# Altium footprint library SOP.PcbLib: 214 footprints (part 1 of 14)
Each footprint in its own frame and in the unit in brackets; x right, y up, seen from the top. Pads: shape width x height; smd on the part's side, far side on the other; paste and mask are expansions set on the pad; w line width, h text height; cw(c..) or ccw(c..) is an arc to the next point about the centre after c.
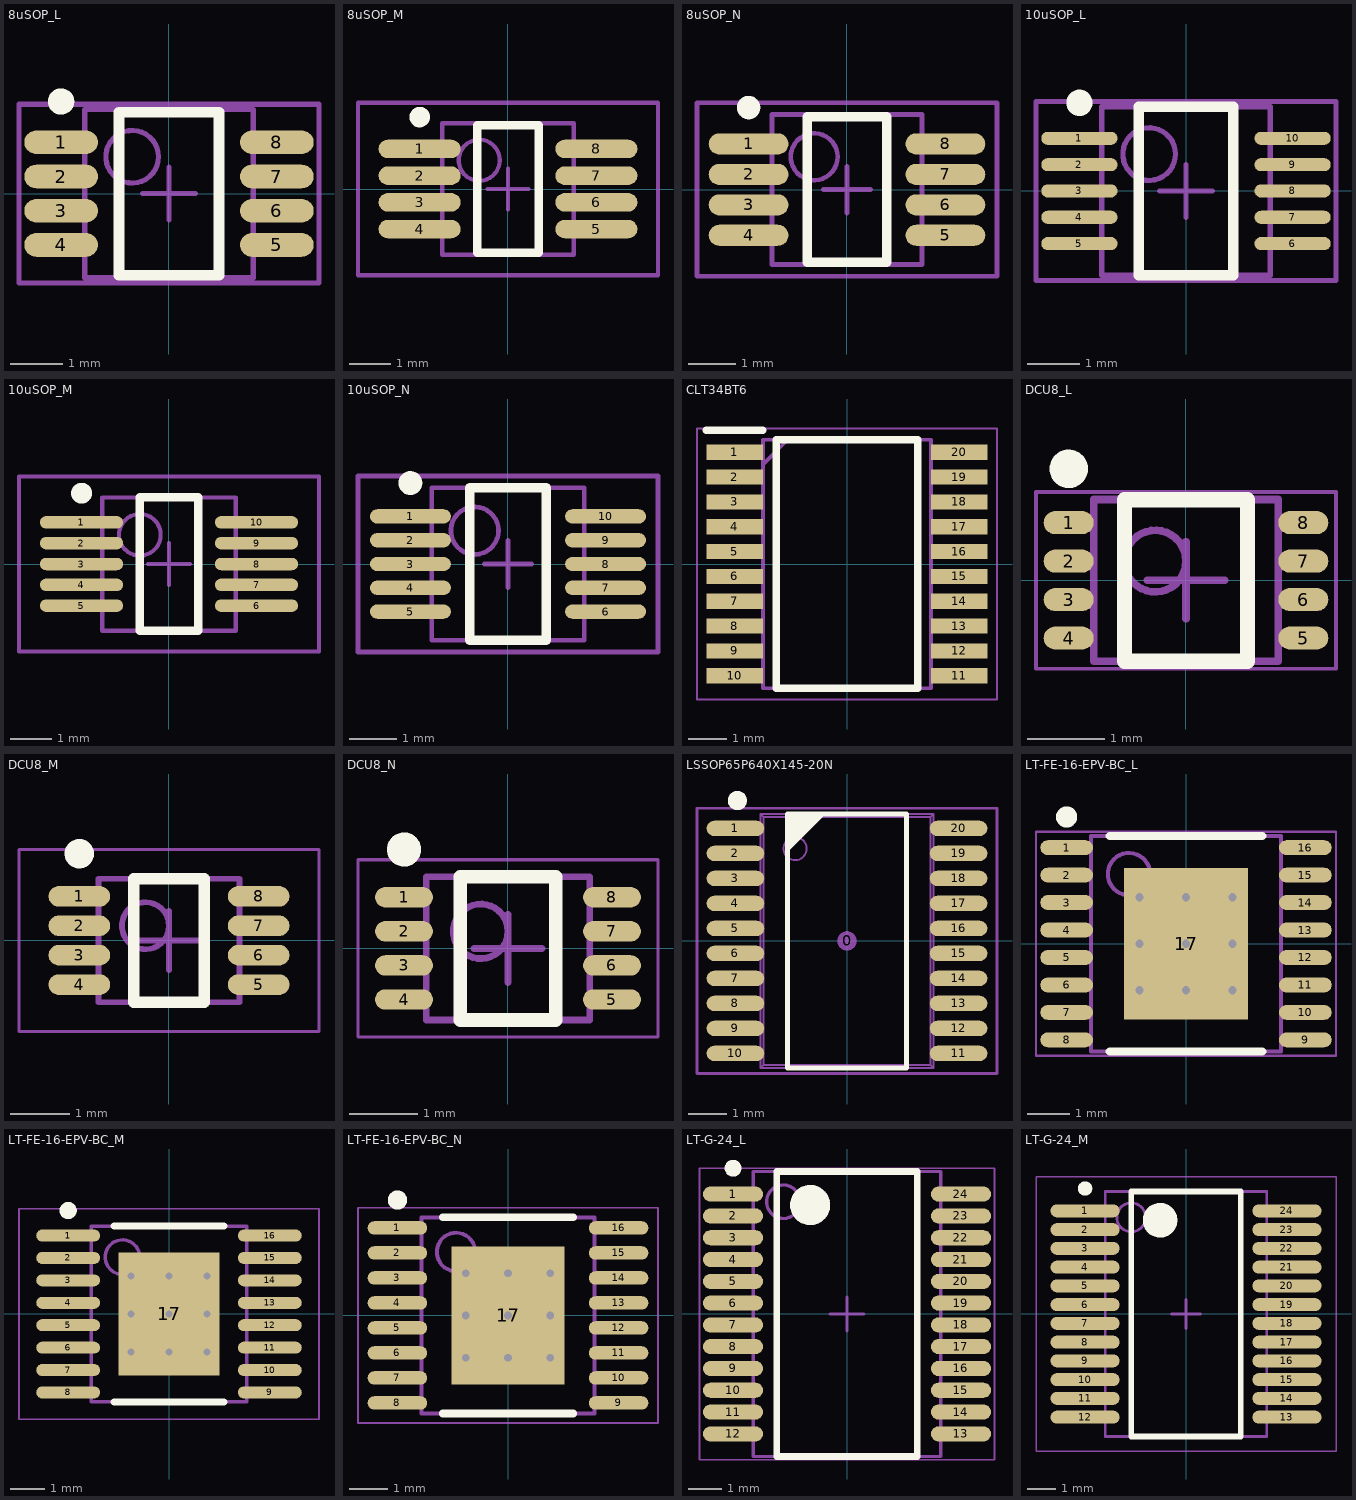
[diagram p0: the footprints below, top view; thin cyan lines are the x and y axes]

## 8uSOP_L [mm] "TSOP, 8-Leads, Body 3x3mm, Pitch 0.65mm, IPC High Density"
height 1.1
pads (8):
  oval 1.4x0.45 smd: 1(-2.05,0.975) 2(-2.05,0.325) 3(-2.05,-0.325) 4(-2.05,-0.975) 5(2.05,-0.975) 6(2.05,-0.325) 7(2.05,0.325) 8(2.05,0.975)
Top Overlay:
  circle w0.25: c-2.05,1.75 r0.125
  lines w0.2: -0.95,-1.55 -0.95,1.55 0.95,1.55 0.95,-1.55 -0.95,-1.55
Mechanical 13:
  circle w0.1: c-0.7,0.7 r0.5
  lines w0.1: -1.6,-1.6 -1.6,1.6 1.6,1.6 1.6,-1.6 -1.6,-1.6
Mechanical 15:
  lines w0.1: -0.5,0 0.5,0 ; 0,-0.5 0,0.5 ; -2.85,-1.7 -2.85,1.7 2.85,1.7 2.85,-1.7 -2.85,-1.7
3D body: height 1.1, standoff 0, extent -1.6,-1.6 1.6,1.6

## 8uSOP_M [mm] "TSOP, 8-Leads, Body 3x3mm, Pitch 0.65mm, IPC Low Density"
height 1.1
pads (8):
  oval 2x0.45 smd: 1(-2.15,0.975) 2(-2.15,0.325) 3(-2.15,-0.325) 4(-2.15,-0.975) 5(2.15,-0.975) 6(2.15,-0.325) 7(2.15,0.325) 8(2.15,0.975)
Top Overlay:
  circle w0.25: c-2.15,1.75 r0.125
  lines w0.2: -0.75,-1.55 -0.75,1.55 0.75,1.55 0.75,-1.55 -0.75,-1.55
Mechanical 13:
  circle w0.1: c-0.7,0.7 r0.5
  lines w0.1: -1.6,-1.6 -1.6,1.6 1.6,1.6 1.6,-1.6 -1.6,-1.6
Mechanical 15:
  lines w0.1: -0.5,0 0.5,0 ; 0,-0.5 0,0.5 ; -3.65,-2.1 -3.65,2.1 3.65,2.1 3.65,-2.1 -3.65,-2.1
3D body: height 1.1, standoff 0, extent -1.6,-1.6 1.6,1.6

## 8uSOP_N [mm] "TSOP, 8-Leads, Body 3x3mm, Pitch 0.65mm, IPC Medium Density"
height 1.1
pads (8):
  oval 1.7x0.45 smd: 1(-2.1,0.975) 2(-2.1,0.325) 3(-2.1,-0.325) 4(-2.1,-0.975) 5(2.1,-0.975) 6(2.1,-0.325) 7(2.1,0.325) 8(2.1,0.975)
Top Overlay:
  circle w0.25: c-2.1,1.75 r0.125
  lines w0.2: -0.85,-1.55 0.85,-1.55 0.85,1.55 -0.85,1.55 -0.85,-1.55
Mechanical 13:
  circle w0.1: c-0.7,0.7 r0.5
  lines w0.1: -1.6,-1.6 1.6,-1.6 1.6,1.6 -1.6,1.6 -1.6,-1.6
Mechanical 15:
  lines w0.1: -0.5,0 0.5,0 ; 0,-0.5 0,0.5 ; -3.2,-1.85 3.2,-1.85 3.2,1.85 -3.2,1.85 -3.2,-1.85
3D body: height 1.1, standoff 0, extent -1.6,-1.6 1.6,1.6

## 10uSOP_L [mm] "TSSOP, 10-Leads, Body 3x3mm, Pitch 0.5mm, IPC High Density"
height 1.1
pads (10):
  oval 1.45x0.25 smd: 1(-2.025,1) 2(-2.025,0.5) 3(-2.025,0) 4(-2.025,-0.5) 5(-2.025,-1) 6(2.025,-1) 7(2.025,-0.5) 8(2.025,0) 9(2.025,0.5) 10(2.025,1)
Top Overlay:
  circle w0.25: c-2.025,1.675 r0.125
  lines w0.2: -0.9,-1.6 0.9,-1.6 0.9,1.6 -0.9,1.6 -0.9,-1.6
Mechanical 13:
  circle w0.1: c-0.7,0.7 r0.5
  lines w0.1: -1.6,-1.6 1.6,-1.6 1.6,1.6 -1.6,1.6 -1.6,-1.6
Mechanical 15:
  lines w0.1: -0.5,0 0.5,0 ; 0,-0.5 0,0.5 ; -2.85,-1.7 2.85,-1.7 2.85,1.7 -2.85,1.7 -2.85,-1.7
3D body: height 1.1, standoff 0, extent -1.6,-1.6 1.6,1.6

## 10uSOP_M [mm] "TSSOP, 10-Leads, Body 3x3mm, Pitch 0.5mm, IPC Low Density"
height 1.1
pads (10):
  oval 2x0.3 smd: 1(-2.1,1) 2(-2.1,0.5) 3(-2.1,0) 4(-2.1,-0.5) 5(-2.1,-1) 6(2.1,-1) 7(2.1,-0.5) 8(2.1,0) 9(2.1,0.5) 10(2.1,1)
Top Overlay:
  circle w0.25: c-2.1,1.7 r0.125
  lines w0.2: -0.7,-1.6 0.7,-1.6 0.7,1.6 -0.7,1.6 -0.7,-1.6
Mechanical 13:
  circle w0.1: c-0.7,0.7 r0.5
  lines w0.1: -1.6,-1.6 1.6,-1.6 1.6,1.6 -1.6,1.6 -1.6,-1.6
Mechanical 15:
  lines w0.1: -0.5,0 0.5,0 ; 0,-0.5 0,0.5 ; -3.6,-2.1 3.6,-2.1 3.6,2.1 -3.6,2.1 -3.6,-2.1
3D body: height 1.1, standoff 0, extent -1.6,-1.6 1.6,1.6

## 10uSOP_N [mm] "TSSOP, 10-Leads, Body 3x3mm, Pitch 0.5mm, IPC Medium Density"
height 1.1
pads (10):
  oval 1.7x0.3 smd: 1(-2.05,1) 2(-2.05,0.5) 3(-2.05,0) 4(-2.05,-0.5) 5(-2.05,-1) 6(2.05,-1) 7(2.05,-0.5) 8(2.05,0) 9(2.05,0.5) 10(2.05,1)
Top Overlay:
  circle w0.25: c-2.05,1.7 r0.125
  lines w0.2: -0.8,-1.6 -0.8,1.6 0.8,1.6 0.8,-1.6 -0.8,-1.6
Mechanical 13:
  circle w0.1: c-0.7,0.7 r0.5
  lines w0.1: -1.6,-1.6 -1.6,1.6 1.6,1.6 1.6,-1.6 -1.6,-1.6
Mechanical 15:
  lines w0.1: -0.5,0 0.5,0 ; 0,-0.5 0,0.5 ; -3.15,-1.85 -3.15,1.85 3.15,1.85 3.15,-1.85 -3.15,-1.85
3D body: height 1.1, standoff 0, extent -1.6,-1.6 1.6,1.6

## CLT34BT6 [mm]
pads (20):
  rect 1.475x0.4 smd: 1(-2.938,2.925) 2(-2.938,2.275) 3(-2.938,1.625) 4(-2.938,0.975) 5(-2.938,0.325) 6(-2.938,-0.325) 7(-2.938,-0.975) 8(-2.938,-1.625) 9(-2.938,-2.275) 10(-2.938,-2.925) 11(2.938,-2.925) 12(2.938,-2.275) 13(2.938,-1.625) 14(2.938,-0.975) 15(2.938,-0.325) 16(2.938,0.325) 17(2.938,0.975) 18(2.938,1.625) 19(2.938,2.275) 20(2.938,2.925)
Top Overlay:
  lines w0.2: -3.675,3.5 -2.2,3.5 ; -1.85,-3.25 1.85,-3.25 1.85,3.25 -1.85,3.25 -1.85,-3.25
Mechanical 13:
  lines w0.1: -2.2,2.6 -1.55,3.25 ; -2.2,-3.25 2.2,-3.25 2.2,3.25 -2.2,3.25 -2.2,-3.25
Mechanical 15:
  lines w0.05: -3.925,-3.55 3.925,-3.55 3.925,3.55 -3.925,3.55 -3.925,-3.55
3D body "STM32G030F6P6TR.stp": height 1.2, standoff 0, extent -3.2,-3.25 3.2,3.25

## DCU8_L [mm] "TSSOP, 8-Leads, Body 2x2.3mm, Pitch 0.5mm, IPC High Density"
height 0.9
pads (8):
  oval 0.65x0.3 smd: 1(-1.525,0.75) 2(-1.525,0.25) 3(-1.525,-0.25) 4(-1.525,-0.75) 5(1.525,-0.75) 6(1.525,-0.25) 7(1.525,0.25) 8(1.525,0.75)
Top Overlay:
  circle w0.25: c-1.525,1.45 r0.125
  lines w0.2: -0.8,-1.05 0.8,-1.05 0.8,1.05 -0.8,1.05 -0.8,-1.05
Mechanical 13:
  circle w0.1: c-0.4,0.25 r0.4
  lines w0.1: -1.2,-1.05 1.2,-1.05 1.2,1.05 -1.2,1.05 -1.2,-1.05
Mechanical 15:
  lines w0.05: -1.95,-1.15 1.95,-1.15 1.95,1.15 -1.95,1.15 -1.95,-1.15
  lines w0.1: -0.5,0 0.5,0 ; 0,-0.5 0,0.5
3D body: height 0.9, standoff 0, extent -1.2,-1.05 1.2,1.05

## DCU8_M [mm] "TSSOP, 8-Leads, Body 2x2.3mm, Pitch 0.5mm, IPC Low Density"
height 0.9
pads (8):
  oval 1.05x0.35 smd: 1(-1.525,0.75) 2(-1.525,0.25) 3(-1.525,-0.25) 4(-1.525,-0.75) 5(1.525,-0.75) 6(1.525,-0.25) 7(1.525,0.25) 8(1.525,0.75)
Top Overlay:
  circle w0.25: c-1.525,1.475 r0.125
  lines w0.2: -0.6,-1.05 -0.6,1.05 0.6,1.05 0.6,-1.05 -0.6,-1.05
Mechanical 13:
  circle w0.1: c-0.4,0.25 r0.4
  lines w0.1: -1.2,-1.05 -1.2,1.05 1.2,1.05 1.2,-1.05 -1.2,-1.05
Mechanical 15:
  lines w0.05: -2.55,-1.55 -2.55,1.55 2.55,1.55 2.55,-1.55 -2.55,-1.55
  lines w0.1: -0.5,0 0.5,0 ; 0,-0.5 0,0.5
3D body: height 0.9, standoff 0, extent -1.2,-1.05 1.2,1.05

## DCU8_N [mm] "TSSOP, 8-Leads, Body 2x2.3mm, Pitch 0.5mm, IPC Medium Density"
height 0.9
pads (8):
  oval 0.85x0.3 smd: 1(-1.525,0.75) 2(-1.525,0.25) 3(-1.525,-0.25) 4(-1.525,-0.75) 5(1.525,-0.75) 6(1.525,-0.25) 7(1.525,0.25) 8(1.525,0.75)
Top Overlay:
  circle w0.25: c-1.525,1.45 r0.125
  lines w0.2: -0.7,-1.05 0.7,-1.05 0.7,1.05 -0.7,1.05 -0.7,-1.05
Mechanical 13:
  circle w0.1: c-0.4,0.25 r0.4
  lines w0.1: -1.2,-1.05 1.2,-1.05 1.2,1.05 -1.2,1.05 -1.2,-1.05
Mechanical 15:
  lines w0.05: -2.2,-1.3 2.2,-1.3 2.2,1.3 -2.2,1.3 -2.2,-1.3
  lines w0.1: -0.5,0 0.5,0 ; 0,-0.5 0,0.5
3D body "User Library-SOP50P310X90-8N[8US8_VSSOP_DCU_MO-187CA].step": height 0.9, standoff 0, extent -1.6,-1.05 1.6,1.05

## LSSOP65P640X145-20N [mm] "LSSOP, 20-Leads, Body 6.6x4.5mm (max), Pitch 0.65mm, IPC Medium Density"
height 1.45
pads (21):
  round 0.508 on Mech15 mask+0.127: 0(0,0)
  oval 1.5x0.4 smd paste-1 mask+0.127: 1(-2.9,2.925) 2(-2.9,2.275) 3(-2.9,1.625) 4(-2.9,0.975) 5(-2.9,0.325) 6(-2.9,-0.325) 7(-2.9,-0.975) 8(-2.9,-1.625) 9(-2.9,-2.275) 10(-2.9,-2.925) 11(2.9,-2.925) 12(2.9,-2.275) 13(2.9,-1.625) 14(2.9,-0.975) 15(2.9,-0.325) 16(2.9,0.325) 17(2.9,0.975) 18(2.9,1.625) 19(2.9,2.275) 20(2.9,2.925)
Top Overlay:
  circle w0.25: c-2.85,3.65 r0.125
  region: -1.55,3.3 -0.55,3.3 -1.55,2.3
  lines w0.127: -1.55,-3.3 -1.55,3.3 1.55,3.3 1.55,-3.3 -1.55,-3.3
Top Paste:
  region: 3.5,-0.825 2.3,-0.825 2.3,-1.125 3.5,-1.125
  region: 3.5,-0.175 2.3,-0.175 2.3,-0.475 3.5,-0.475
  region: 3.5,0.475 2.3,0.475 2.3,0.175 3.5,0.175
  region: 3.5,1.125 2.3,1.125 2.3,0.825 3.5,0.825
  region: 3.5,1.775 2.3,1.775 2.3,1.475 3.5,1.475
  region: 3.5,2.425 2.3,2.425 2.3,2.125 3.5,2.125
  region: 3.5,3.075 2.3,3.075 2.3,2.775 3.5,2.775
  rectangle: -3.5,2.775 -2.3,3.075
  rectangle: -3.5,2.125 -2.3,2.425
  rectangle: -3.5,1.475 -2.3,1.775
  rectangle: -3.5,0.825 -2.3,1.125
  rectangle: -3.5,0.175 -2.3,0.475
  rectangle: -3.5,-0.475 -2.3,-0.175
  rectangle: -3.5,-1.125 -2.3,-0.825
  rectangle: -3.5,-3.075 -2.3,-2.775
  rectangle: -3.5,-2.425 -2.3,-2.125
  rectangle: -3.5,-1.775 -2.3,-1.475
  region: 3.5,-1.475 2.3,-1.475 2.3,-1.775 3.5,-1.775
  region: 3.5,-2.125 2.3,-2.125 2.3,-2.425 3.5,-2.425
  region: 3.5,-2.775 2.3,-2.775 2.3,-3.075 3.5,-3.075
Mechanical 13:
  drawing of 153 lines, arcs and shapes, not listed
Mechanical 15:
  lines w0.076: -3.9,-3.45 -3.9,3.45 3.9,3.45 3.9,-3.45 -3.9,-3.45
3D body "LSSOP65P640X145-20N.STEP": height 1.45, standoff 0, extent -3.3,-3.3 3.3,3.3

## LT-FE-16-EPV-BC_L [mm] "SOP, 16-Leads, Body 5.1x4.5mm, Pitch 0.65mm, Thermal Pad 3.58x2.94mm, IPC High Density"
height 1.1
pads (17):
  oval 1.25x0.35 smd: 1(-2.825,2.275) 2(-2.825,1.625) 3(-2.825,0.975) 4(-2.825,0.325) 5(-2.825,-0.325) 6(-2.825,-0.975) 7(-2.825,-1.625) 8(-2.825,-2.275) 9(2.825,-2.275) 10(2.825,-1.625) 11(2.825,-0.975) 12(2.825,-0.325) 13(2.825,0.325) 14(2.825,0.975) 15(2.825,1.625) 16(2.825,2.275)
  rect 2.94x3.58 smd: 17(0,0)
via 1.1,-1.1 diameter 0.5 hole 0.2
via 0,-1.1 diameter 0.5 hole 0.2
via -1.1,-1.1 diameter 0.5 hole 0.2
via 1.1,0 diameter 0.5 hole 0.2
via 0,0 diameter 0.5 hole 0.2
via -1.1,0 diameter 0.5 hole 0.2
via 1.1,1.1 diameter 0.5 hole 0.2
via 0,1.1 diameter 0.5 hole 0.2
via -1.1,1.1 diameter 0.5 hole 0.2
Top Overlay:
  circle w0.25: c-2.825,3 r0.125
  lines w0.2: -1.8,-2.55 1.8,-2.55 ; -1.8,2.55 1.8,2.55
Mechanical 13:
  circle w0.1: c-1.35,1.65 r0.5
  lines w0.1: -2.25,-2.55 2.25,-2.55 2.25,2.55 -2.25,2.55 -2.25,-2.55
Mechanical 15:
  lines w0.05: -3.55,-2.65 3.55,-2.65 3.55,2.65 -3.55,2.65 -3.55,-2.65
  lines w0.1: -0.5,0 0.5,0 ; 0,-0.5 0,0.5
3D body: height 1.1, standoff 0.05, extent -2.25,-2.55 2.25,2.55

## LT-FE-16-EPV-BC_M [mm] "SOP, 16-Leads, Body 5.1x4.5mm, Pitch 0.65mm, Thermal Pad 3.58x2.94mm, IPC Low Density"
height 1.1
pads (17):
  oval 1.85x0.35 smd: 1(-2.925,2.275) 2(-2.925,1.625) 3(-2.925,0.975) 4(-2.925,0.325) 5(-2.925,-0.325) 6(-2.925,-0.975) 7(-2.925,-1.625) 8(-2.925,-2.275) 9(2.925,-2.275) 10(2.925,-1.625) 11(2.925,-0.975) 12(2.925,-0.325) 13(2.925,0.325) 14(2.925,0.975) 15(2.925,1.625) 16(2.925,2.275)
  rect 2.94x3.58 smd: 17(0,0)
via 1.1,-1.1 diameter 0.5 hole 0.2
via 0,-1.1 diameter 0.5 hole 0.2
via -1.1,-1.1 diameter 0.5 hole 0.2
via 1.1,0 diameter 0.5 hole 0.2
via 0,0 diameter 0.5 hole 0.2
via -1.1,0 diameter 0.5 hole 0.2
via 1.1,1.1 diameter 0.5 hole 0.2
via 0,1.1 diameter 0.5 hole 0.2
via -1.1,1.1 diameter 0.5 hole 0.2
Top Overlay:
  circle w0.25: c-2.925,3 r0.125
  lines w0.2: -1.6,-2.55 1.6,-2.55 ; -1.6,2.55 1.6,2.55
Mechanical 13:
  circle w0.1: c-1.35,1.65 r0.5
  lines w0.1: -2.25,-2.55 2.25,-2.55 2.25,2.55 -2.25,2.55 -2.25,-2.55
Mechanical 15:
  lines w0.05: -4.35,-3.05 4.35,-3.05 4.35,3.05 -4.35,3.05 -4.35,-3.05
  lines w0.1: -0.5,0 0.5,0 ; 0,-0.5 0,0.5
3D body: height 1.1, standoff 0.05, extent -2.25,-2.55 2.25,2.55

## LT-FE-16-EPV-BC_N [mm] "SOP, 16-Leads, Body 5.1x4.5mm, Pitch 0.65mm, Thermal Pad 3.58x2.94mm, IPC Medium Density"
height 1.1
pads (17):
  oval 1.55x0.35 smd: 1(-2.875,2.275) 2(-2.875,1.625) 3(-2.875,0.975) 4(-2.875,0.325) 5(-2.875,-0.325) 6(-2.875,-0.975) 7(-2.875,-1.625) 8(-2.875,-2.275) 9(2.875,-2.275) 10(2.875,-1.625) 11(2.875,-0.975) 12(2.875,-0.325) 13(2.875,0.325) 14(2.875,0.975) 15(2.875,1.625) 16(2.875,2.275)
  rect 2.94x3.58 smd: 17(0,0)
via -1.1,1.1 diameter 0.5 hole 0.2
via 0,1.1 diameter 0.5 hole 0.2
via 1.1,1.1 diameter 0.5 hole 0.2
via -1.1,0 diameter 0.5 hole 0.2
via 0,0 diameter 0.5 hole 0.2
via 1.1,0 diameter 0.5 hole 0.2
via -1.1,-1.1 diameter 0.5 hole 0.2
via 0,-1.1 diameter 0.5 hole 0.2
via 1.1,-1.1 diameter 0.5 hole 0.2
Top Overlay:
  circle w0.25: c-2.875,3 r0.125
  lines w0.2: -1.7,-2.55 1.7,-2.55 ; -1.7,2.55 1.7,2.55
Mechanical 13:
  circle w0.1: c-1.35,1.65 r0.5
  lines w0.1: -2.25,-2.55 -2.25,2.55 2.25,2.55 2.25,-2.55 -2.25,-2.55
Mechanical 15:
  lines w0.05: -3.9,-2.8 -3.9,2.8 3.9,2.8 3.9,-2.8 -3.9,-2.8
  lines w0.1: -0.5,0 0.5,0 ; 0,-0.5 0,0.5
3D body: height 1.1, standoff 0.05, extent -2.25,-2.55 2.25,2.55

## LT-G-24_L [mm] "SOP, 24-Leads, Body 8.5x5.6mm, Pitch 0.65mm, IPC High Density"
height 2
pads (24):
  oval 1.8x0.45 smd: 1(-3.4,3.575) 2(-3.4,2.925) 3(-3.4,2.275) 4(-3.4,1.625) 5(-3.4,0.975) 6(-3.4,0.325) 7(-3.4,-0.325) 8(-3.4,-0.975) 9(-3.4,-1.625) 10(-3.4,-2.275) 11(-3.4,-2.925) 12(-3.4,-3.575) 13(3.4,-3.575) 14(3.4,-2.925) 15(3.4,-2.275) 16(3.4,-1.625) 17(3.4,-0.975) 18(3.4,-0.325) 19(3.4,0.325) 20(3.4,0.975) 21(3.4,1.625) 22(3.4,2.275) 23(3.4,2.925) 24(3.4,3.575)
Top Overlay:
  circle w0.25: c-3.4,4.35 r0.125
  circle w0.6: c-1.1,3.25 r0.3
  lines w0.2: -2.1,-4.25 -2.1,4.25 2.1,4.25 2.1,-4.25 -2.1,-4.25
Mechanical 13:
  circle w0.1: c-1.9,3.35 r0.5
  lines w0.1: -2.8,-4.25 -2.8,4.25 2.8,4.25 2.8,-4.25 -2.8,-4.25
Mechanical 15:
  lines w0.05: -4.4,-4.35 -4.4,4.35 4.4,4.35 4.4,-4.35 -4.4,-4.35
  lines w0.1: -0.5,0 0.5,0 ; 0,-0.5 0,0.5
3D body: height 2, standoff 0.05, extent -2.8,-4.25 2.8,4.25

## LT-G-24_M [mm] "SOP, 24-Leads, Body 8.5x5.6mm, Pitch 0.65mm, IPC Low Density"
height 2
pads (24):
  oval 2.4x0.45 smd: 1(-3.5,3.575) 2(-3.5,2.925) 3(-3.5,2.275) 4(-3.5,1.625) 5(-3.5,0.975) 6(-3.5,0.325) 7(-3.5,-0.325) 8(-3.5,-0.975) 9(-3.5,-1.625) 10(-3.5,-2.275) 11(-3.5,-2.925) 12(-3.5,-3.575) 13(3.5,-3.575) 14(3.5,-2.925) 15(3.5,-2.275) 16(3.5,-1.625) 17(3.5,-0.975) 18(3.5,-0.325) 19(3.5,0.325) 20(3.5,0.975) 21(3.5,1.625) 22(3.5,2.275) 23(3.5,2.925) 24(3.5,3.575)
Top Overlay:
  circle w0.6: c-0.9,3.25 r0.3
  circle w0.25: c-3.5,4.35 r0.125
  lines w0.2: -1.9,-4.25 1.9,-4.25 1.9,4.25 -1.9,4.25 -1.9,-4.25
Mechanical 13:
  circle w0.1: c-1.9,3.35 r0.5
  lines w0.1: -2.8,-4.25 2.8,-4.25 2.8,4.25 -2.8,4.25 -2.8,-4.25
Mechanical 15:
  lines w0.05: -5.2,-4.75 5.2,-4.75 5.2,4.75 -5.2,4.75 -5.2,-4.75
  lines w0.1: -0.5,0 0.5,0 ; 0,-0.5 0,0.5
3D body: height 2, standoff 0.05, extent -2.8,-4.25 2.8,4.25